# Altium schematic symbol library BMP388.SchLib: 1 symbol
Pins are listed as number, name and electrical type; pins without a type are passive.

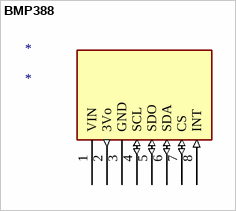
[diagram p0: symbol BMP388]

## BMP388
designator *
footprint BMP388(new)
pins: 1 VIN (power), 2 3Vo (out), 3 GND (power), 4 SCL (io), 5 SDO (io), 6 SDA (io), 7 CS (io), 8 INT (in)